# EAGLE library part CARAMBOLA-2_AR9331-MODULE (library BaseApp)
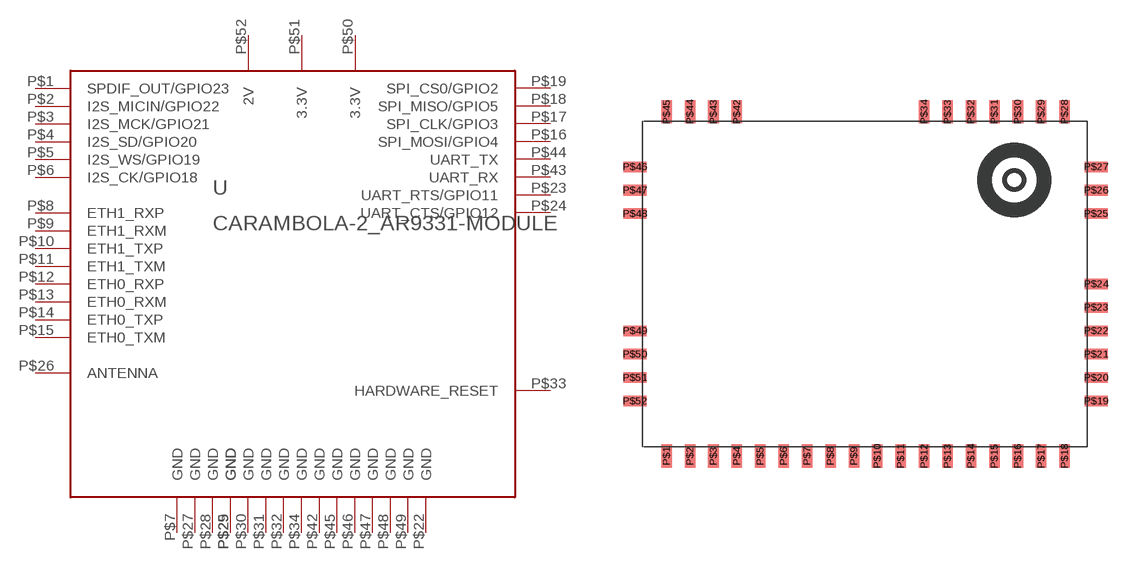
[diagram p152: symbol with the pads of CARAMBOLA2-AR9331_MODULE; footprint CARAMBOLA2-AR9331_MODULE]

Designator prefix -

## CARAMBOLA-2_AR9331-MODULE (PRICE_PER_UNIT: 25; URL: http://shop.8devices.com/carambola2)  [CARAMBOLA2-AR9331_MODULE]
P$1  SPDIF_OUT/GPIO23
P$2  I2S_MICIN/GPIO22
P$3  I2S_MCK/GPIO21
P$4  I2S_SD/GPIO20
P$5  I2S_WS/GPIO19
P$6  I2S_CK/GPIO18
P$7  GND
P$8  ETH1_RXP
P$9  ETH1_RXM
P$10  ETH1_TXP
P$11  ETH1_TXM
P$12  ETH0_RXP
P$13  ETH0_RXM
P$14  ETH0_TXP
P$15  ETH0_TXM
P$16  SPI_MOSI/GPIO4
P$17  SPI_CLK/GPIO3
P$18  SPI_MISO/GPIO5
P$19  SPI_CS0/GPIO2
P$22  GND
P$23  UART_RTS/GPIO11
P$24  UART_CTS/GPIO12
P$25  GND
P$26  ANTENNA
P$27  GND
P$28  GND
P$29  GND
P$30  GND
P$31  GND
P$32  GND
P$33  HARDWARE_RESET
P$34  GND
P$42  GND
P$43  UART_RX
P$44  UART_TX
P$45  GND
P$46  GND
P$47  GND
P$48  GND
P$49  GND
P$50  3.3V
P$51  3.3V
P$52  2V

## Footprint CARAMBOLA2-AR9331_MODULE (pad centres in mm)
smd 0.9 x 2: P$1 -13.19,-17.24; P$2 -11.19,-17.24; P$3 -9.19,-17.24; P$4 -7.19,-17.24; P$5 -5.19,-17.24; P$6 -3.19,-17.24; P$7 -1.19,-17.24; P$8 0.81,-17.24; P$9 2.81,-17.24; P$10 4.81,-17.24; P$11 6.81,-17.24; P$12 8.81,-17.24; P$13 10.81,-17.24; P$14 12.81,-17.24; P$15 14.81,-17.24; P$16 16.81,-17.24; P$17 18.81,-17.24; P$18 20.81,-17.24; P$28 20.81,12.16; P$29 18.81,12.16; P$30 16.81,12.16; P$31 14.81,12.16; P$32 12.81,12.16; P$33 10.81,12.16; P$34 8.81,12.16; P$42 -7.19,12.16; P$43 -9.19,12.16; P$44 -11.19,12.16; P$45 -13.19,12.16
smd 2 x 0.9: P$19 23.51,-12.54; P$20 23.51,-10.54; P$21 23.51,-8.54; P$22 23.51,-6.54; P$23 23.51,-4.54; P$24 23.51,-2.54; P$25 23.51,3.46; P$26 23.51,5.46; P$27 23.51,7.46; P$46 -15.89,7.46; P$47 -15.89,5.46; P$48 -15.89,3.46; P$49 -15.89,-6.54; P$50 -15.89,-8.54; P$51 -15.89,-10.54; P$52 -15.89,-12.54